# EAGLE library part VCNL4010 (library samuel)
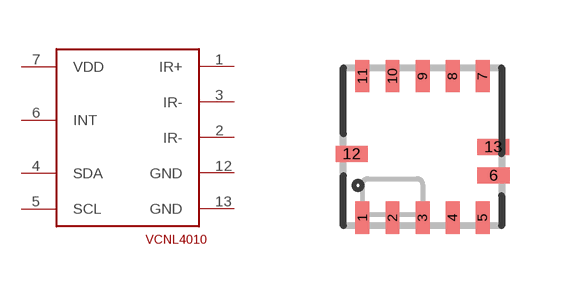
[diagram p13: symbol with the pads of VCNL4010; footprint VCNL4010]

Designator prefix -

## VCNL4010  [VCNL4010]
1  IR+  pwr
2  IR-  pwr
3  IR-  pwr
4  SDA
5  SCL
6  INT
7  VDD  pwr
12  GND  pwr
13  GND  pwr

## Footprint VCNL4010 (pad centres in mm)
smd 0.35 x 0.805: 1 -1.5,-1.772; 2 -0.75,-1.772; 3 0,-1.772; 4 0.75,-1.772; 5 1.5,-1.772; 7 1.5,1.772; 8 0.75,1.772; 9 0,1.772; 10 -0.75,1.772; 11 -1.5,1.772
smd 0.805 x 0.4: 6 1.772,-0.715; 12 -1.772,-0.175
smd 0.8 x 0.4: 13 1.77,0